# EAGLE library part MINILA_XC9500TQ144 (library MiniLA)
Xilinx CPLD XC9500 TQFP144
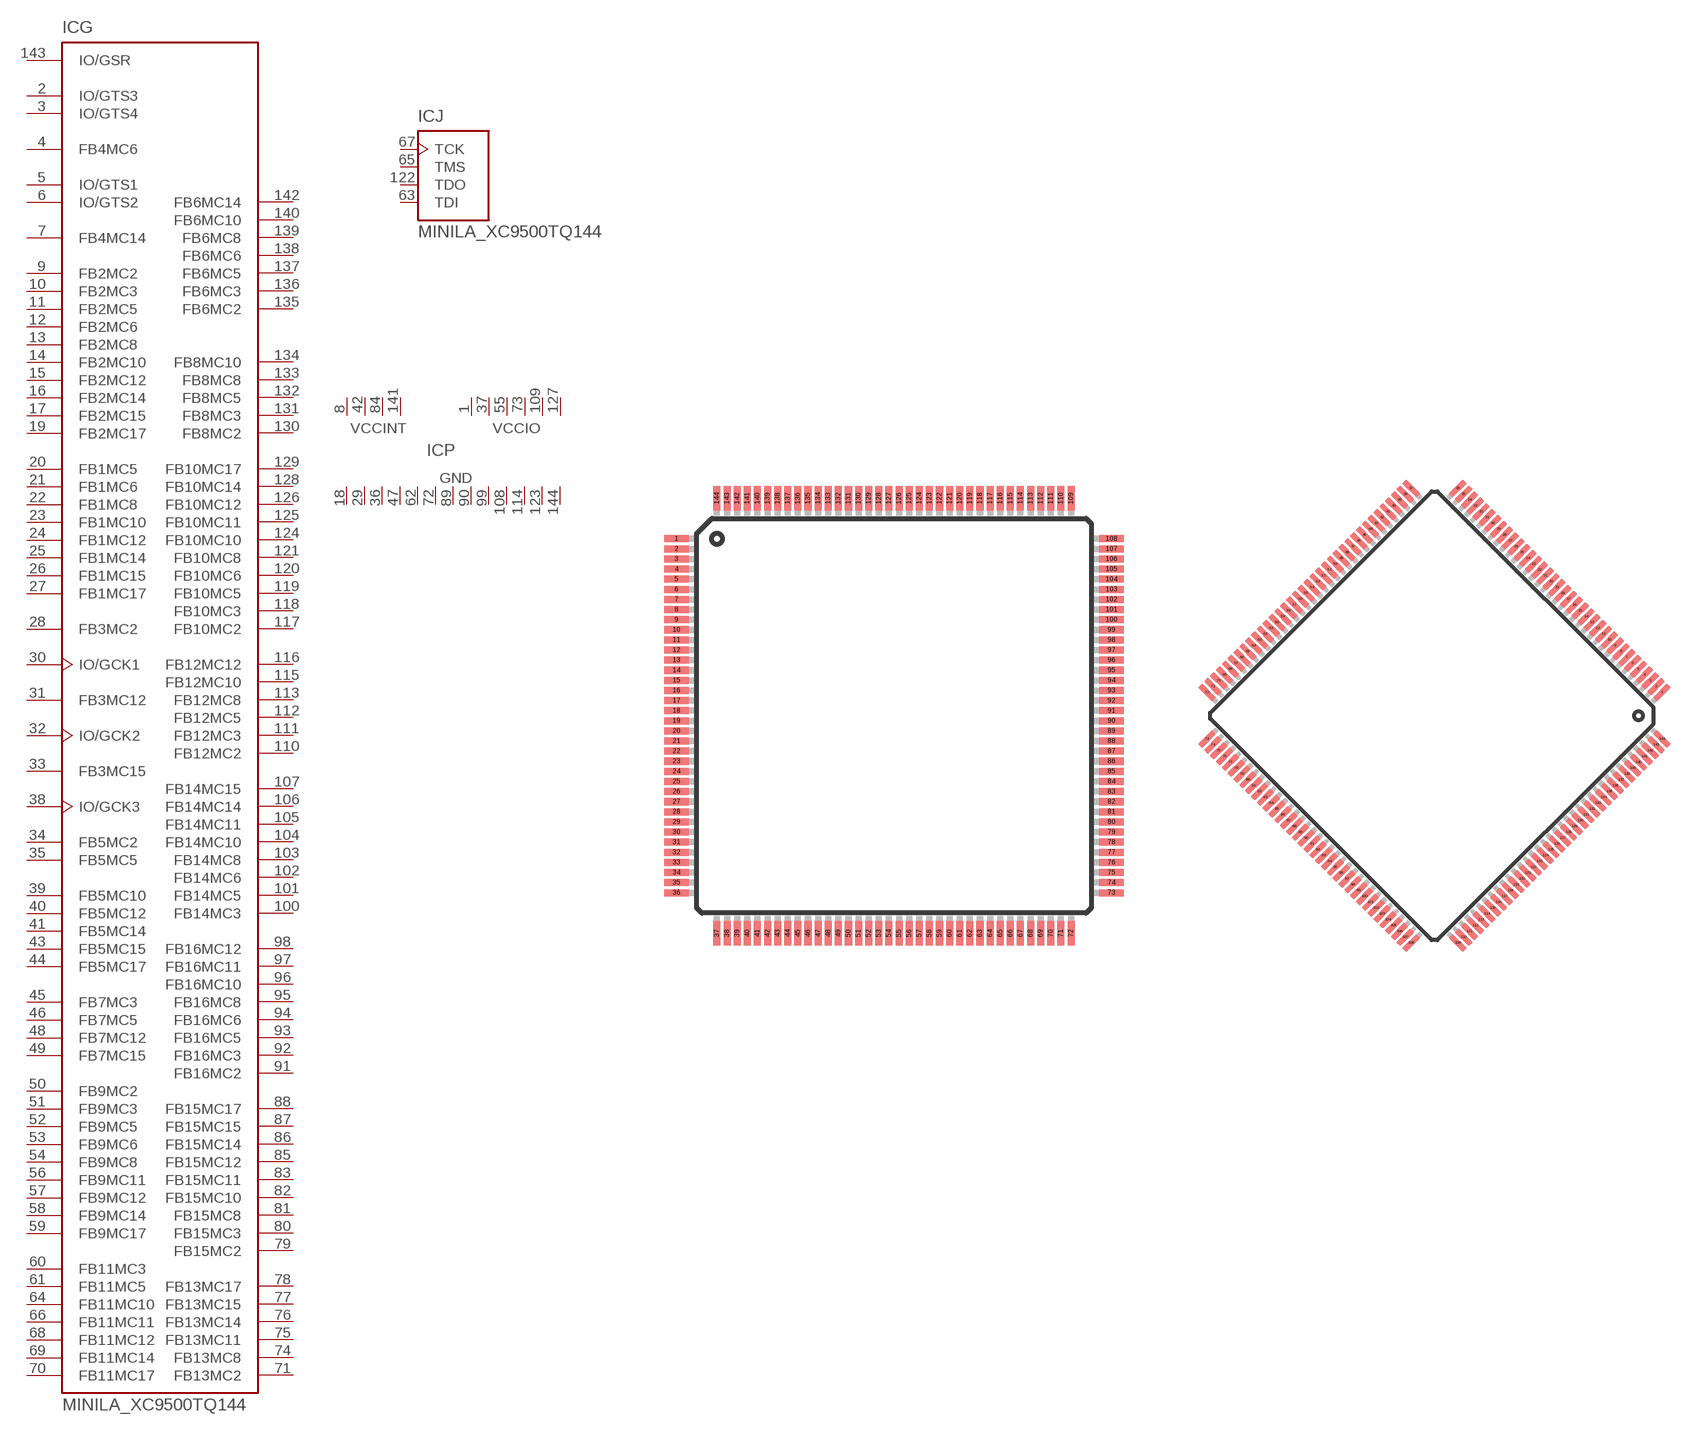
[diagram p5: symbol with the pads of MINILA_TQ144; footprints MINILA_TQ144, MINILA_TQ144_45]

Designator prefix IC; gates G=MINILA_XC9500TQ144 J=MINILA_JTAG P=MINILA_PWR10GND13

## MINILA_XC9500TQ144"  [MINILA_TQ144]
1  P:VCCIO  pwr
2  G:IO/GTS3
3  G:IO/GTS4
4  G:FB4MC6
5  G:IO/GTS1
6  G:IO/GTS2
7  G:FB4MC14
8  P:VCCINT  pwr
9  G:FB2MC2
10  G:FB2MC3
11  G:FB2MC5
12  G:FB2MC6
13  G:FB2MC8
14  G:FB2MC10
15  G:FB2MC12
16  G:FB2MC14
17  G:FB2MC15
18  P:GND  pwr
19  G:FB2MC17
20  G:FB1MC5
21  G:FB1MC6
22  G:FB1MC8
23  G:FB1MC10
24  G:FB1MC12
25  G:FB1MC14
26  G:FB1MC15
27  G:FB1MC17
28  G:FB3MC2
29  P:GND  pwr
30  G:IO/GCK1
31  G:FB3MC12
32  G:IO/GCK2
33  G:FB3MC15
34  G:FB5MC2
35  G:FB5MC5
36  P:GND  pwr
37  P:VCCIO  pwr
38  G:IO/GCK3
39  G:FB5MC10
40  G:FB5MC12
41  G:FB5MC14
42  P:VCCINT  pwr
43  G:FB5MC15
44  G:FB5MC17
45  G:FB7MC3
46  G:FB7MC5
47  P:GND  pwr
48  G:FB7MC12
49  G:FB7MC15
50  G:FB9MC2
51  G:FB9MC3
52  G:FB9MC5
53  G:FB9MC6
54  G:FB9MC8
55  P:VCCIO  pwr
56  G:FB9MC11
57  G:FB9MC12
58  G:FB9MC14
59  G:FB9MC17
60  G:FB11MC3
61  G:FB11MC5
62  P:GND  pwr
63  J:TDI  in
64  G:FB11MC10
65  J:TMS  in
66  G:FB11MC11
67  J:TCK  in
68  G:FB11MC12
69  G:FB11MC14
70  G:FB11MC17
71  G:FB13MC2
72  P:GND  pwr
73  P:VCCIO  pwr
74  G:FB13MC8
75  G:FB13MC11
76  G:FB13MC14
77  G:FB13MC15
78  G:FB13MC17
79  G:FB15MC2
80  G:FB15MC3
81  G:FB15MC8
82  G:FB15MC10
83  G:FB15MC11
84  P:VCCINT  pwr
85  G:FB15MC12
86  G:FB15MC14
87  G:FB15MC15
88  G:FB15MC17
89  P:GND  pwr
90  P:GND  pwr
91  G:FB16MC2
92  G:FB16MC3
93  G:FB16MC5
94  G:FB16MC6
95  G:FB16MC8
96  G:FB16MC10
97  G:FB16MC11
98  G:FB16MC12
99  P:GND  pwr
100  G:FB14MC3
101  G:FB14MC5
102  G:FB14MC6
103  G:FB14MC8
104  G:FB14MC10
105  G:FB14MC11
106  G:FB14MC14
107  G:FB14MC15
108  P:GND  pwr
109  P:VCCIO  pwr
110  G:FB12MC2
111  G:FB12MC3
112  G:FB12MC5
113  G:FB12MC8
114  P:GND  pwr
115  G:FB12MC10
116  G:FB12MC12
117  G:FB10MC2
118  G:FB10MC3
119  G:FB10MC5
120  G:FB10MC6
121  G:FB10MC8
122  J:TDO  out
123  P:GND  pwr
124  G:FB10MC10
125  G:FB10MC11
126  G:FB10MC12
127  P:VCCIO  pwr
128  G:FB10MC14
129  G:FB10MC17
130  G:FB8MC2
131  G:FB8MC3
132  G:FB8MC5
133  G:FB8MC8
134  G:FB8MC10
135  G:FB6MC2
136  G:FB6MC3
137  G:FB6MC5
138  G:FB6MC6
139  G:FB6MC8
140  G:FB6MC10
141  P:VCCINT  pwr
142  G:FB6MC14
143  G:IO/GSR
144  P:GND  pwr

## MINILA_XC9500TQ144TQ144_45  [MINILA_TQ144_45]
Pads as for MINILA_TQ144

## Footprint MINILA_TQ144 (pad centres in mm)
smd 1.2 x 0.35: 1 -10.75,8.75; 2 -10.75,8.25; 3 -10.75,7.75; 4 -10.75,7.25; 5 -10.75,6.75; 6 -10.75,6.25; 7 -10.75,5.75; 8 -10.75,5.25; 9 -10.75,4.75; 10 -10.75,4.25; 11 -10.75,3.75; 12 -10.75,3.25; 13 -10.75,2.75; 14 -10.75,2.25; 15 -10.75,1.75; 16 -10.75,1.25; 17 -10.75,0.75; 18 -10.75,0.25; 19 -10.75,-0.25; 20 -10.75,-0.75; 21 -10.75,-1.25; 22 -10.75,-1.75; 23 -10.75,-2.25; 24 -10.75,-2.75; 25 -10.75,-3.25; 26 -10.75,-3.75; 27 -10.75,-4.25; 28 -10.75,-4.75; 29 -10.75,-5.25; 30 -10.75,-5.75; 31 -10.75,-6.25; 32 -10.75,-6.75; 33 -10.75,-7.25; 34 -10.75,-7.75; 35 -10.75,-8.25; 36 -10.75,-8.75; 73 10.75,-8.75; 74 10.75,-8.25; 75 10.75,-7.75; 76 10.75,-7.25; 77 10.75,-6.75; 78 10.75,-6.25; 79 10.75,-5.75; 80 10.75,-5.25; 81 10.75,-4.75; 82 10.75,-4.25; 83 10.75,-3.75; 84 10.75,-3.25; 85 10.75,-2.75; 86 10.75,-2.25; 87 10.75,-1.75; 88 10.75,-1.25; 89 10.75,-0.75; 90 10.75,-0.25; 91 10.75,0.25; 92 10.75,0.75; 93 10.75,1.25; 94 10.75,1.75; 95 10.75,2.25; 96 10.75,2.75; 97 10.75,3.25; 98 10.75,3.75; 99 10.75,4.25; 100 10.75,4.75; 101 10.75,5.25; 102 10.75,5.75; 103 10.75,6.25; 104 10.75,6.75; 105 10.75,7.25; 106 10.75,7.75; 107 10.75,8.25; 108 10.75,8.75
smd 0.35 x 1.2: 37 -8.75,-10.75; 38 -8.25,-10.75; 39 -7.75,-10.75; 40 -7.25,-10.75; 41 -6.75,-10.75; 42 -6.25,-10.75; 43 -5.75,-10.75; 44 -5.25,-10.75; 45 -4.75,-10.75; 46 -4.25,-10.75; 47 -3.75,-10.75; 48 -3.25,-10.75; 49 -2.75,-10.75; 50 -2.25,-10.75; 51 -1.75,-10.75; 52 -1.25,-10.75; 53 -0.75,-10.75; 54 -0.25,-10.75; 55 0.25,-10.75; 56 0.75,-10.75; 57 1.25,-10.75; 58 1.75,-10.75; 59 2.25,-10.75; 60 2.75,-10.75; 61 3.25,-10.75; 62 3.75,-10.75; 63 4.25,-10.75; 64 4.75,-10.75; 65 5.25,-10.75; 66 5.75,-10.75; 67 6.25,-10.75; 68 6.75,-10.75; 69 7.25,-10.75; 70 7.75,-10.75; 71 8.25,-10.75; 72 8.75,-10.75; 109 8.75,10.75; 110 8.25,10.75; 111 7.75,10.75; 112 7.25,10.75; 113 6.75,10.75; 114 6.25,10.75; 115 5.75,10.75; 116 5.25,10.75; 117 4.75,10.75; 118 4.25,10.75; 119 3.75,10.75; 120 3.25,10.75; 121 2.75,10.75; 122 2.25,10.75; 123 1.75,10.75; 124 1.25,10.75; 125 0.75,10.75; 126 0.25,10.75; 127 -0.25,10.75; 128 -0.75,10.75; 129 -1.25,10.75; 130 -1.75,10.75; 131 -2.25,10.75; 132 -2.75,10.75; 133 -3.25,10.75; 134 -3.75,10.75; 135 -4.25,10.75; 136 -4.75,10.75; 137 -5.25,10.75; 138 -5.75,10.75; 139 -6.25,10.75; 140 -6.75,10.75; 141 -7.25,10.75; 142 -7.75,10.75; 143 -8.25,10.75; 144 -8.75,10.75

## Footprint MINILA_TQ144_45 (pad centres in mm)
smd 0.203 x 0.203: 1 13.789,2.684; 2 13.435,3.038; 3 13.082,3.391; 4 12.728,3.745; 5 12.374,4.098; 6 12.021,4.452; 7 11.667,4.805; 8 11.314,5.159; 9 10.96,5.513; 10 10.607,5.866; 11 10.253,6.22; 12 9.899,6.574; 13 9.546,6.927; 14 9.192,7.28; 15 8.839,7.634; 16 8.485,7.987; 17 8.132,8.341; 18 7.778,8.695; 19 7.425,9.048; 20 7.071,9.402; 21 6.718,9.755; 22 6.364,10.109; 23 6.01,10.462; 24 5.657,10.816; 25 5.303,11.169; 26 4.95,11.523; 27 4.596,11.877; 28 4.243,12.23; 29 3.889,12.584; 30 3.535,12.937; 31 3.182,13.291; 32 2.828,13.644; 33 2.475,13.998; 34 2.121,14.351; 35 1.768,14.705; 36 1.414,15.059; 37 -1.414,15.059; 38 -1.768,14.705; 39 -2.121,14.351; 40 -2.475,13.998; 41 -2.828,13.644; 42 -3.182,13.291; 43 -3.535,12.937; 44 -3.889,12.584; 45 -4.243,12.23; 46 -4.596,11.877; 47 -4.95,11.523; 48 -5.303,11.169; 49 -5.657,10.816; 50 -6.01,10.462; 51 -6.364,10.109; 52 -6.718,9.755; 53 -7.071,9.402; 54 -7.425,9.048; 55 -7.778,8.695; 56 -8.132,8.341; 57 -8.485,7.987; 58 -8.839,7.634; 59 -9.192,7.28; 60 -9.546,6.927; 61 -9.899,6.574; 62 -10.253,6.22; 63 -10.607,5.866; 64 -10.96,5.513; 65 -11.314,5.159; 66 -11.667,4.805; 67 -12.021,4.452; 68 -12.374,4.098; 69 -12.728,3.745; 70 -13.082,3.391; 71 -13.435,3.038; 72 -13.789,2.684; 73 -13.789,-0.144; 74 -13.435,-0.498; 75 -13.082,-0.851; 76 -12.728,-1.205; 77 -12.374,-1.558; 78 -12.021,-1.912; 79 -11.667,-2.265; 80 -11.314,-2.619; 81 -10.96,-2.973; 82 -10.607,-3.326; 83 -10.253,-3.68; 84 -9.899,-4.034; 85 -9.546,-4.387; 86 -9.192,-4.74; 87 -8.839,-5.094; 88 -8.485,-5.447; 89 -8.132,-5.801; 90 -7.778,-6.155; 91 -7.425,-6.508; 92 -7.071,-6.862; 93 -6.718,-7.215; 94 -6.364,-7.569; 95 -6.01,-7.922; 96 -5.657,-8.276; 97 -5.303,-8.629; 98 -4.95,-8.983; 99 -4.596,-9.336; 100 -4.243,-9.69; 101 -3.889,-10.044; 102 -3.535,-10.397; 103 -3.182,-10.751; 104 -2.828,-11.104; 105 -2.475,-11.458; 106 -2.121,-11.812; 107 -1.768,-12.165; 108 -1.414,-12.519; 109 1.414,-12.519; 110 1.768,-12.165; 111 2.121,-11.812; 112 2.475,-11.458; 113 2.828,-11.104; 114 3.182,-10.751; 115 3.535,-10.397; 116 3.889,-10.044; 117 4.243,-9.69; 118 4.596,-9.336; 119 4.95,-8.983; 120 5.303,-8.629; 121 5.657,-8.276; 122 6.01,-7.922; 123 6.364,-7.569; 124 6.718,-7.215; 125 7.071,-6.862; 126 7.425,-6.508; 127 7.778,-6.155; 128 8.132,-5.801; 129 8.485,-5.447; 130 8.839,-5.094; 131 9.192,-4.74; 132 9.546,-4.387; 133 9.899,-4.034; 134 10.253,-3.68; 135 10.607,-3.326; 136 10.96,-2.973; 137 11.314,-2.619; 138 11.667,-2.265; 139 12.021,-1.912; 140 12.374,-1.558; 141 12.728,-1.205; 142 13.082,-0.851; 143 13.435,-0.498; 144 13.789,-0.144